# Altium footprint library CAN_PCBLIB.PcbLib: 2 footprints
Each footprint in its own frame and in the unit in brackets; x right, y up, seen from the top. Pads: shape width x height; smd on the part's side, far side on the other; paste and mask are expansions set on the pad; w line width, h text height; cw(c..) or ccw(c..) is an arc to the next point about the centre after c.
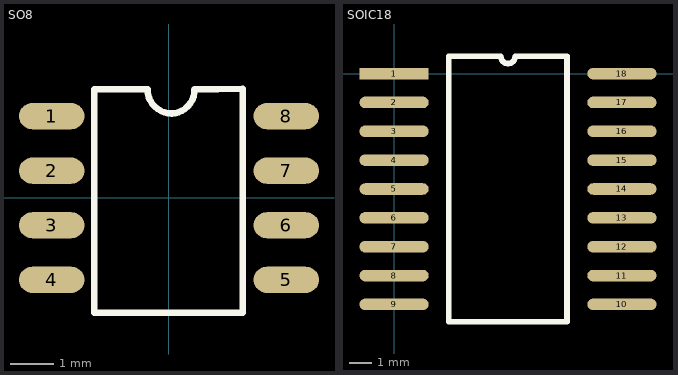
[diagram p0: the footprints below, top view; thin cyan lines are the x and y axes]

## SO8 [mil]
pads (8):
  oval 60x24 smd: 1(-107.44,74.77) 2(-107.44,24.77) 3(-107.44,-25.23) 4(-107.44,-75.23) 5(107.56,-75.23) 6(107.56,-25.23) 7(107.56,24.77) 8(107.56,74.77)
Top Overlay:
  lines w6: -68.44,-105.23 -68.44,99.23 -19.57,99.23 ccw(c2.43,99.23) 2.43,77.23 2.42,77.23 ccw(c1.93,98.73) 23.43,99.22 67.56,99.77 67.56,-105.23 -68.44,-105.23

## SOIC18 [mil]
pads (18):
  rect 120x20 smd: 1(0,0)
  oval 120x20 smd: 2(0,-50) 3(0,-100) 4(0,-150) 5(0,-200) 6(0,-250) 7(0,-300) 8(0,-350) 9(0,-400) 10(395,-400) 11(395,-350) 12(395,-300) 13(395,-250) 14(395,-200) 15(395,-150) 16(395,-100) 17(395,-50) 18(395,0)
Top Overlay:
  lines w10: 95,-430 300,-430 300,30 210,30 cw(c197.5,30) 185,30 95,30 95,-430